# Altium schematic symbol library TPS54361-SON10.SchLib: 1 symbol
Pins are listed as number, name and electrical type; pins without a type are passive.

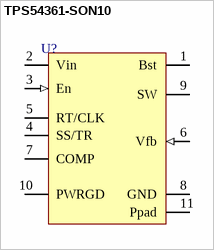
[diagram p0: symbol TPS54361-SON10]

## TPS54361-SON10
designator U?  (value not drawn)
pins: 1 Bst, 2 Vin, 3 En (in), 4 SS/TR, 5 RT/CLK, 6 Vfb (in), 7 COMP, 8 GND, 9 SW, 10 PWRGD (oc), 11 Ppad